# Altium footprint library sdl.PcbLib: 12 footprints
Each footprint in its own frame and in the unit in brackets; x right, y up, seen from the top. Pads: shape width x height; smd on the part's side, far side on the other; paste and mask are expansions set on the pad; w line width, h text height; cw(c..) or ccw(c..) is an arc to the next point about the centre after c.
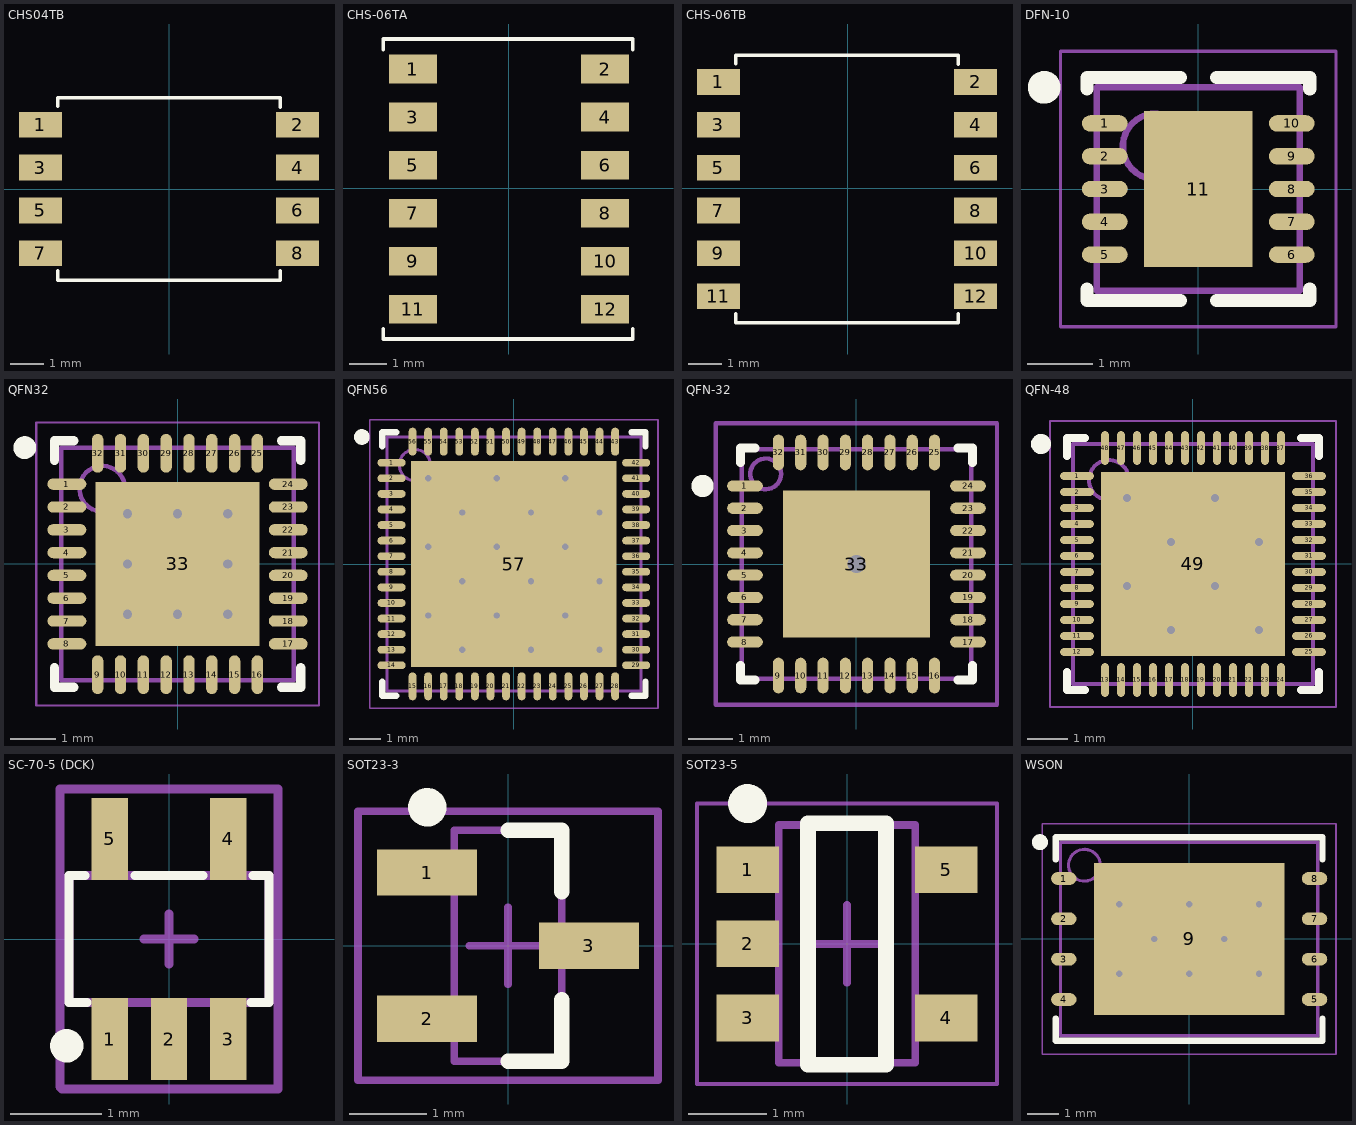
[diagram p0: the footprints below, top view; thin cyan lines are the x and y axes]

## CHS04TB [mm] "4 POS DIP SWITCH"
pads (8):
  rect 1.27x0.76 smd: 1(-3.81,1.905) 2(3.81,1.905) 3(-3.81,0.635) 4(3.81,0.635) 5(-3.81,-0.635) 6(3.81,-0.635) 7(-3.81,-1.905) 8(3.81,-1.905)
Top Overlay:
  lines w0.1: -3.3,-2.425 -3.3,-2.7 3.3,-2.7 3.3,-2.425 ; -3.3,2.45 -3.3,2.7 3.3,2.7 3.3,2.425
3D body: height 2.5, standoff 2.2, extent -1.5,-1.4 1.5,-1.1
3D body: height 2.5, standoff 2.2, extent -1.5,-0.1 1.5,0.2
3D body: height 2.5, standoff 2.2, extent -1.5,1.15 1.5,1.45
3D body: height 2.5, standoff 2.2, extent -1.5,-2.7 1.5,-2.4
3D body: height 2.5, standoff 2.2, extent -1.5,2.4 1.5,2.7
3D body: height 2.5, standoff 2.2, extent 1.5,-2.7 3.3,2.7
3D body: height 2.5, standoff 2.2, extent -3.3,-2.7 -1.5,2.7
3D body: height 2.3, standoff 2.2, extent -1.2,-2.3 0,-1.5
3D body: height 2.3, standoff 2.2, extent 0,-1 1.2,-0.2
3D body: height 2.3, standoff 2.2, extent -1.2,0.3 0,1.1
3D body: height 2.5, standoff 2.2, extent 0,-2.3 1.2,-1.5
3D body: height 2.5, standoff 2.2, extent -1.2,-1 0,-0.2
3D body: height 2.5, standoff 2.2, extent 0,0.3 1.2,1.1
3D body: height 2.3, standoff 2.2, extent 0,1.5 1.2,2.3
3D body: height 2.5, standoff 2.2, extent -1.2,1.5 0,2.3
3D body: height 2.2, standoff 0, extent -3.3,-2.7 3.3,2.7

## CHS-06TA [mm] "6 POS DIP SWITCH"
pads (12):
  rect 1.27x0.76 smd: 1(-2.54,3.15) 2(2.54,3.15) 3(-2.54,1.88) 4(2.54,1.88) 5(-2.54,0.61) 6(2.54,0.61) 7(-2.54,-0.66) 8(2.54,-0.66) 9(-2.54,-1.93) 10(2.54,-1.93) 11(-2.54,-3.2) 12(2.54,-3.2)
Top Overlay:
  lines w0.1: -3.325,-3.72 -3.325,-3.988 3.275,-3.988 3.275,-3.72 ; -3.325,3.67 -3.325,3.945 3.275,3.945 3.275,3.67
3D body: height 2.5, standoff 2.2, extent -1.525,-2.695 1.475,-2.395
3D body: height 2.5, standoff 2.2, extent -1.525,-3.988 1.475,-3.695
3D body: height 2.3, standoff 2.2, extent -1.225,-3.595 -0.025,-2.795
3D body: height 2.3, standoff 2.2, extent -0.025,-2.295 1.175,-1.495
3D body: height 2.5, standoff 2.2, extent -0.025,-3.595 1.175,-2.795
3D body: height 2.5, standoff 2.2, extent -1.225,-2.295 -0.025,-1.495
3D body: height 2.2, standoff 0, extent -3.325,-3.988 3.275,3.945
3D body: height 2.5, standoff 2.2, extent -1.225,2.745 -0.025,3.545
3D body: height 2.3, standoff 2.2, extent -0.025,2.745 1.175,3.545
3D body: height 2.5, standoff 2.2, extent -0.025,1.545 1.175,2.345
3D body: height 2.5, standoff 2.2, extent -1.225,0.245 -0.025,1.045
3D body: height 2.5, standoff 2.2, extent -0.025,-1.055 1.175,-0.255
3D body: height 2.3, standoff 2.2, extent -1.225,1.545 -0.025,2.345
3D body: height 2.3, standoff 2.2, extent -0.025,0.245 1.175,1.045
3D body: height 2.3, standoff 2.2, extent -1.225,-1.055 -0.025,-0.255
3D body: height 2.5, standoff 2.2, extent -3.325,-3.988 -1.525,3.945
3D body: height 2.5, standoff 2.2, extent 1.475,-3.988 3.275,3.945
3D body: height 2.5, standoff 2.2, extent -1.525,3.645 1.475,3.945
3D body: height 2.5, standoff 2.2, extent -1.525,-1.455 1.475,-1.155
3D body: height 2.5, standoff 2.2, extent -1.525,2.395 1.475,2.695
3D body: height 2.5, standoff 2.2, extent -1.525,1.145 1.475,1.445
3D body: height 2.5, standoff 2.2, extent -1.525,-0.155 1.475,0.145

## CHS-06TB [mil] "6 POS DIP SWITCH"
pads (12):
  rect 50x29.92 smd: 1(-151,124) 2(149,124) 3(-151,74) 4(149,74) 5(-151,24) 6(149,24) 7(-151,-26) 8(149,-26) 9(-151,-76) 10(149,-76) 11(-151,-126) 12(149,-126)
Top Overlay:
  lines w3.94: -130.92,-146.47 -130.92,-157 128.92,-157 128.92,-146.47 ; -130.92,145.46 -130.92,155.3 128.92,155.3 128.92,144.47
3D body: height 98.43, standoff 86.61, extent -60.05,-106.11 58.06,-94.3
3D body: height 98.43, standoff 86.61, extent -60.06,-157 58.06,-145.49
3D body: height 90.55, standoff 86.61, extent -48.24,-141.55 -1,-110.05
3D body: height 90.55, standoff 86.61, extent -0.99,-90.37 46.25,-58.87
3D body: height 98.43, standoff 86.61, extent -0.99,-141.55 46.25,-110.05
3D body: height 98.43, standoff 86.61, extent -48.24,-90.37 -1,-58.87
3D body: height 86.61, standoff 0, extent -130.92,-157 128.92,155.3
3D body: height 98.43, standoff 86.61, extent -48.24,108.06 -1,139.56
3D body: height 90.55, standoff 86.61, extent -1,108.06 46.24,139.56
3D body: height 98.43, standoff 86.61, extent -0.99,60.81 46.25,92.31
3D body: height 98.43, standoff 86.61, extent -48.24,9.63 -1,41.13
3D body: height 98.43, standoff 86.61, extent -0.99,-41.55 46.25,-10.05
3D body: height 90.55, standoff 86.61, extent -48.24,60.81 -1,92.31
3D body: height 90.55, standoff 86.61, extent -0.99,9.63 46.25,41.13
3D body: height 90.55, standoff 86.61, extent -48.24,-41.55 -1,-10.05
3D body: height 98.43, standoff 86.61, extent -130.92,-157 -60.05,155.3
3D body: height 98.43, standoff 86.61, extent 58.06,-157 128.92,155.3
3D body: height 98.43, standoff 86.61, extent -60.06,143.49 58.06,155.3
3D body: height 98.43, standoff 86.61, extent -60.06,-57.3 58.06,-45.49
3D body: height 98.43, standoff 86.61, extent -60.05,94.28 58.06,106.09
3D body: height 98.43, standoff 86.61, extent -60.05,45.07 58.06,56.88
3D body: height 98.43, standoff 86.61, extent -60.05,-6.11 58.06,5.7

## DFN-10 [mm] "QFN, 10-Leads, Body 3.00x3.00mm, Pitch 0.50mm, Thermal Pad 1.65x2.38mm, IPC Medium Density"
height 0.75
pads (11):
  oval 0.7x0.25 smd: 1(-1.425,1) 2(-1.425,0.5) 3(-1.425,0) 4(-1.425,-0.5) 5(-1.425,-1) 6(1.425,-1) 7(1.425,-0.5) 8(1.425,0) 9(1.425,0.5) 10(1.425,1)
  rect 1.65x2.38 smd: 11(0,0)
Top Overlay:
  circle w0.25: c-2.35,1.55 r0.125
  lines w0.2: -1.7,-1.525 -1.7,-1.7 -0.275,-1.7 ; -1.7,1.525 -1.7,1.7 -0.275,1.7 ; 0.275,-1.7 1.7,-1.7 1.7,-1.525 ; 0.275,1.7 1.7,1.7 1.7,1.525
Mechanical 13:
  circle w0.1: c-0.65,0.65 r0.5
  lines w0.1: -1.55,-1.55 1.55,-1.55 1.55,1.55 -1.55,1.55 -1.55,-1.55
Mechanical 15:
  lines w0.05: -2.1,-2.1 2.1,-2.1 2.1,2.1 -2.1,2.1 -2.1,-2.1
  lines w0.1: -0.5,0 0.5,0 ; 0,-0.5 0,0.5
3D body: height 0.75, standoff 0, extent -1.55,-1.55 1.55,1.55

## QFN32 [mm] "QFN, 32-Leads, Body 5.00x5.00mm, Pitch 0.50mm, Thermal Pad 3.60x3.60mm, IPC Medium Density"
height 0.9
pads (33):
  oval 0.85x0.25 smd: 1(-2.425,1.75) 2(-2.425,1.25) 3(-2.425,0.75) 4(-2.425,0.25) 5(-2.425,-0.25) 6(-2.425,-0.75) 7(-2.425,-1.25) 8(-2.425,-1.75) 17(2.425,-1.75) 18(2.425,-1.25) 19(2.425,-0.75) 20(2.425,-0.25) 21(2.425,0.25) 22(2.425,0.75) 23(2.425,1.25) 24(2.425,1.75)
  oval 0.25x0.85 smd: 9(-1.75,-2.425) 10(-1.25,-2.425) 11(-0.75,-2.425) 12(-0.25,-2.425) 13(0.25,-2.425) 14(0.75,-2.425) 15(1.25,-2.425) 16(1.75,-2.425) 25(1.75,2.425) 26(1.25,2.425) 27(0.75,2.425) 28(0.25,2.425) 29(-0.25,2.425) 30(-0.75,2.425) 31(-1.25,2.425) 32(-1.75,2.425)
  rect 3.6x3.6 smd: 33(0,0)
via 1.1,-1.1 diameter 0.55 hole 0.2
via 0,-1.1 diameter 0.55 hole 0.2
via -1.1,-1.1 diameter 0.55 hole 0.2
via 1.1,0 diameter 0.55 hole 0.2
via -1.1,0 diameter 0.55 hole 0.2
via 1.1,1.1 diameter 0.55 hole 0.2
via 0,1.1 diameter 0.55 hole 0.2
via -1.1,1.1 diameter 0.55 hole 0.2
Top Overlay:
  circle w0.25: c-3.35,2.55 r0.125
  lines w0.2: -2.7,-2.275 -2.7,-2.7 -2.275,-2.7 ; -2.7,2.275 -2.7,2.7 -2.275,2.7 ; 2.275,-2.7 2.7,-2.7 2.7,-2.275 ; 2.275,2.7 2.7,2.7 2.7,2.275
Mechanical 13:
  circle w0.1: c-1.65,1.65 r0.5
  lines w0.1: -2.55,-2.55 2.55,-2.55 2.55,2.55 -2.55,2.55 -2.55,-2.55
Mechanical 15:
  lines w0.05: -3.1,-3.1 3.1,-3.1 3.1,3.1 -3.1,3.1 -3.1,-3.1
  lines w0.1: -0.5,0 0.5,0 ; 0,-0.5 0,0.5
3D body: height 0.9, standoff 0, extent -2.55,-2.55 2.55,2.55

## QFN56 [mm] "QFN, 56-Leads, Body 8.00x8.00mm, Pitch 0.50mm, Thermal Pad 6.60x6.60mm, IPC Medium Density"
height 1
pads (57):
  oval 0.9x0.25 smd: 1(-3.925,3.25) 2(-3.925,2.75) 3(-3.925,2.25) 4(-3.925,1.75) 5(-3.925,1.25) 6(-3.925,0.75) 7(-3.925,0.25) 8(-3.925,-0.25) 9(-3.925,-0.75) 10(-3.925,-1.25) 11(-3.925,-1.75) 12(-3.925,-2.25) 13(-3.925,-2.75) 14(-3.925,-3.25) 29(3.925,-3.25) 30(3.925,-2.75) 31(3.925,-2.25) 32(3.925,-1.75) 33(3.925,-1.25) 34(3.925,-0.75) 35(3.925,-0.25) 36(3.925,0.25) 37(3.925,0.75) 38(3.925,1.25) 39(3.925,1.75) 40(3.925,2.25) 41(3.925,2.75) 42(3.925,3.25)
  oval 0.25x0.9 smd: 15(-3.25,-3.925) 16(-2.75,-3.925) 17(-2.25,-3.925) 18(-1.75,-3.925) 19(-1.25,-3.925) 20(-0.75,-3.925) 21(-0.25,-3.925) 22(0.25,-3.925) 23(0.75,-3.925) 24(1.25,-3.925) 25(1.75,-3.925) 26(2.25,-3.925) 27(2.75,-3.925) 28(3.25,-3.925) 43(3.25,3.925) 44(2.75,3.925) 45(2.25,3.925) 46(1.75,3.925) 47(1.25,3.925) 48(0.75,3.925) 49(0.25,3.925) 50(-0.25,3.925) 51(-0.75,3.925) 52(-1.25,3.925) 53(-1.75,3.925) 54(-2.25,3.925) 55(-2.75,3.925) 56(-3.25,3.925)
  rect 6.6x6.6 smd: 57(0,0)
via 2.75,-2.75 diameter 0.559 hole 0.203
via 0.55,-2.75 diameter 0.559 hole 0.203
via -1.65,-2.75 diameter 0.559 hole 0.203
via 1.65,-1.65 diameter 0.559 hole 0.203
via -0.55,-1.65 diameter 0.559 hole 0.203
via -2.75,-1.65 diameter 0.559 hole 0.203
via 2.75,-0.55 diameter 0.559 hole 0.203
via 0.55,-0.55 diameter 0.559 hole 0.203
via -1.65,-0.55 diameter 0.559 hole 0.203
via 1.65,0.55 diameter 0.559 hole 0.203
via -0.55,0.55 diameter 0.559 hole 0.203
via -2.75,0.55 diameter 0.559 hole 0.203
via 2.75,1.65 diameter 0.559 hole 0.203
via 0.55,1.65 diameter 0.559 hole 0.203
via -1.65,1.65 diameter 0.559 hole 0.203
via 1.65,2.75 diameter 0.559 hole 0.203
via -0.55,2.75 diameter 0.559 hole 0.203
via -2.75,2.75 diameter 0.559 hole 0.203
Top Overlay:
  circle w0.25: c-4.875,4.075 r0.125
  lines w0.2: -4.225,-3.775 -4.225,-4.225 -3.775,-4.225 ; -4.225,3.775 -4.225,4.225 -3.775,4.225 ; 3.775,-4.225 4.225,-4.225 4.225,-3.775 ; 3.775,4.225 4.225,4.225 4.225,3.775
Mechanical 13:
  circle w0.1: c-3.175,3.175 r0.5
  lines w0.1: -4.075,-4.075 4.075,-4.075 4.075,4.075 -4.075,4.075 -4.075,-4.075
Mechanical 15:
  lines w0.05: -4.625,-4.625 4.625,-4.625 4.625,4.625 -4.625,4.625 -4.625,-4.625
  lines w0.1: -0.5,0 0.5,0 ; 0,-0.5 0,0.5
3D body: height 1, standoff 0, extent -4.075,-4.075 4.075,4.075

## QFN-32 [mm] "32-Pin QFN 0.5 mm Pitch"
height 0.8
pads (33):
  oval 0.8x0.25 smd: 1(-2.5,1.75) 2(-2.5,1.25) 3(-2.5,0.75) 4(-2.5,0.25) 5(-2.5,-0.25) 6(-2.5,-0.75) 7(-2.5,-1.25) 8(-2.5,-1.75) 17(2.5,-1.75) 18(2.5,-1.25) 19(2.5,-0.75) 20(2.5,-0.25) 21(2.5,0.25) 22(2.5,0.75) 23(2.5,1.25) 24(2.5,1.75)
  oval 0.25x0.8 smd: 9(-1.75,-2.5) 10(-1.25,-2.5) 11(-0.75,-2.5) 12(-0.25,-2.5) 13(0.25,-2.5) 14(0.75,-2.5) 15(1.25,-2.5) 16(1.75,-2.5) 25(1.75,2.5) 26(1.25,2.5) 27(0.75,2.5) 28(0.25,2.5) 29(-0.25,2.5) 30(-0.75,2.5) 31(-1.25,2.5) 32(-1.75,2.5)
  rect 3.3x3.3 smd: 33(0,0)
via 0,0 diameter 0.8 hole 0.4
Top Overlay:
  circle w0.25: c-3.45,1.75 r0.125
  lines w0.2: -2.6,-2.275 -2.6,-2.6 -2.275,-2.6 ; -2.6,2.275 -2.6,2.6 -2.275,2.6 ; 2.275,-2.6 2.6,-2.6 2.6,-2.275 ; 2.275,2.6 2.6,2.6 2.6,2.275
Mechanical 13:
  circle w0.1: c-2.035,2.02 r0.345
  lines w0.1: -2.575,-2.575 -2.575,2.575 2.575,2.575 2.575,-2.575 -2.575,-2.575
Mechanical 15:
  lines w0.1: -0.5,0 0.5,0 ; 0,-0.5 0,0.5 ; -3.15,-3.15 -3.15,3.15 3.15,3.15 3.15,-3.15 -3.15,-3.15
3D body: height 0.8, standoff 0, extent -2.575,-2.575 2.575,2.575

## QFN-48 [mm] "QFN, 48-Leads, Body 6.00x6.00mm, Pitch 0.40mm, Thermal Pad 4.60x4.60mm, IPC Medium Density"
height 0.9
pads (49):
  oval 0.85x0.2 smd: 1(-2.9,2.2) 2(-2.9,1.8) 3(-2.9,1.4) 4(-2.9,1) 5(-2.9,0.6) 6(-2.9,0.2) 7(-2.9,-0.2) 8(-2.9,-0.6) 9(-2.9,-1) 10(-2.9,-1.4) 11(-2.9,-1.8) 12(-2.9,-2.2) 25(2.9,-2.2) 26(2.9,-1.8) 27(2.9,-1.4) 28(2.9,-1) 29(2.9,-0.6) 30(2.9,-0.2) 31(2.9,0.2) 32(2.9,0.6) 33(2.9,1) 34(2.9,1.4) 35(2.9,1.8) 36(2.9,2.2)
  oval 0.2x0.85 smd: 13(-2.2,-2.9) 14(-1.8,-2.9) 15(-1.4,-2.9) 16(-1,-2.9) 17(-0.6,-2.9) 18(-0.2,-2.9) 19(0.2,-2.9) 20(0.6,-2.9) 21(1,-2.9) 22(1.4,-2.9) 23(1.8,-2.9) 24(2.2,-2.9) 37(2.2,2.9) 38(1.8,2.9) 39(1.4,2.9) 40(1,2.9) 41(0.6,2.9) 42(0.2,2.9) 43(-0.2,2.9) 44(-0.6,2.9) 45(-1,2.9) 46(-1.4,2.9) 47(-1.8,2.9) 48(-2.2,2.9)
  rect 4.6x4.6 smd: 49(0,0)
via 1.65,-1.65 diameter 0.5 hole 0.2
via -0.55,-1.65 diameter 0.5 hole 0.2
via 0.55,-0.55 diameter 0.5 hole 0.2
via -1.65,-0.55 diameter 0.5 hole 0.2
via 1.65,0.55 diameter 0.5 hole 0.2
via -0.55,0.55 diameter 0.5 hole 0.2
via 0.55,1.65 diameter 0.5 hole 0.2
via -1.65,1.65 diameter 0.5 hole 0.2
Top Overlay:
  circle w0.25: c-3.8,3 r0.125
  lines w0.2: -3.15,-2.7 -3.15,-3.15 -2.7,-3.15 ; -3.15,2.7 -3.15,3.15 -2.7,3.15 ; 2.7,-3.15 3.15,-3.15 3.15,-2.7 ; 2.7,3.15 3.15,3.15 3.15,2.7
Mechanical 13:
  circle w0.1: c-2.1,2.1 r0.5
  lines w0.1: -3,-3 3,-3 3,3 -3,3 -3,-3
Mechanical 15:
  lines w0.05: -3.575,-3.575 3.575,-3.575 3.575,3.575 -3.575,3.575 -3.575,-3.575
  lines w0.1: -0.5,0 0.5,0 ; 0,-0.5 0,0.5
3D body: height 0.9, standoff 0, extent -3,-3 3,3

## SC-70-5 (DCK) [mm]
pads (5):
  rect 0.4x0.9 smd mask+0.05: 1(-0.65,-1.1) 2(0,-1.1) 3(0.65,-1.1) 4(0.65,1.1) 5(-0.65,1.1)
Top Overlay:
  circle w0.254: c-1.125,-1.175 r0.056
  lines w0.1: -0.925,0.7 -1.1,0.7 -1.1,-0.7 -0.9,-0.7 ; -0.375,0.7 0.375,0.7 ; 0.9,-0.7 1.1,-0.7 1.1,0.7 0.925,0.7
Mechanical 13:
  lines w0.1: -1.1,-0.7 -1.1,0.7 1.1,0.7 1.1,-0.7 -1.1,-0.7
Mechanical 15:
  lines w0.1: -0.275,0 0.275,0 ; 0,-0.275 0,0.275 ; -1.2,-1.625 -1.175,-1.65 1.2,-1.65 1.2,1.65 -1.2,1.65 -1.2,-1.625
3D body: height 1.1, standoff 0, extent -1.1,-0.7 1.1,0.7

## SOT23-3 [mm] "SOT23, 3-Leads, Body 2.9x1.3mm, Pitch 0.95mm, Lead Span 2.3mm, IPC Medium Density"
height 1.2
pads (3):
  rect 1.3x0.6 smd: 1(-1.05,0.95) 2(-1.05,-0.95) 3(1.05,0)
Top Overlay:
  circle w0.25: c-1.05,1.8 r0.125
  lines w0.2: 0,-1.5 0.7,-1.5 0.7,-0.7 ; 0,1.5 0.7,1.5 0.7,0.7
Mechanical 13:
  lines w0.1: -0.7,-1.5 0.7,-1.5 0.7,1.5 -0.7,1.5 -0.7,-1.5
Mechanical 15:
  lines w0.1: -0.5,0 0.5,0 ; 0,-0.5 0,0.5 ; -1.95,-1.75 1.95,-1.75 1.95,1.75 -1.95,1.75 -1.95,-1.75
3D body: height 1.2, standoff 0, extent -0.7,-1.5 0.7,1.5

## SOT23-5 [mm] "SOT23, 5-Leads, Body 2.90x2.45mm, Pitch 0.95mm, IPC Medium Density"
height 0.15
pads (5):
  rect 0.8x0.6 smd: 1(-1.275,0.95) 2(-1.275,0) 3(-1.275,-0.95) 4(1.275,-0.95) 5(1.275,0.95)
Top Overlay:
  circle w0.25: c-1.275,1.8 r0.125
  lines w0.2: -0.5,-1.55 0.5,-1.55 0.5,1.55 -0.5,1.55 -0.5,-1.55
Mechanical 13:
  lines w0.1: -0.875,-1.525 -0.875,1.525 0.875,1.525 0.875,-1.525 -0.875,-1.525
Mechanical 15:
  lines w0.05: -1.925,-1.8 -1.925,1.8 1.925,1.8 1.925,-1.8 -1.925,-1.8
  lines w0.1: -0.5,0 0.5,0 ; 0,-0.5 0,0.5
3D body: height 0.15, standoff 0, extent -0.875,-1.525 0.875,1.525

## WSON [mm] "QFN, 8-Leads, Body 8.00x6.00mm, Pitch 1.27mm, Thermal Pad 6.00x4.80mm, IPC Medium Density"
height 0.8
pads (9):
  oval 0.8x0.4 smd: 1(-3.95,1.905) 2(-3.95,0.635) 3(-3.95,-0.635) 4(-3.95,-1.905) 5(3.95,-1.905) 6(3.95,-0.635) 7(3.95,0.635) 8(3.95,1.905)
  rect 6x4.8 smd: 9(0,0)
via 1.1,0 diameter 0.55 hole 0.2
via 2.2,1.1 diameter 0.55 hole 0.2
via 2.2,-1.1 diameter 0.55 hole 0.2
via 0,1.1 diameter 0.55 hole 0.2
via 0,-1.1 diameter 0.55 hole 0.2
via -1.1,0 diameter 0.55 hole 0.2
via -2.2,1.1 diameter 0.55 hole 0.2
via -2.2,-1.1 diameter 0.55 hole 0.2
Top Overlay:
  circle w0.25: c-4.7,3.05 r0.125
  lines w0.2: -4.2,-2.505 -4.2,-3.2 0.035,-3.2 ; -4.2,2.505 -4.2,3.2 0.035,3.2 ; -0.035,-3.2 4.2,-3.2 4.2,-2.505 ; -0.035,3.2 4.2,3.2 4.2,2.505
Mechanical 13:
  circle w0.1: c-3.3,2.325 r0.5
  lines w0.1: -4.05,-3.05 4.05,-3.05 4.05,3.05 -4.05,3.05 -4.05,-3.05
Mechanical 15:
  lines w0.05: -4.625,-3.625 4.625,-3.625 4.625,3.625 -4.625,3.625 -4.625,-3.625
  lines w0.1: -0.5,0 0.5,0 ; 0,-0.5 0,0.5
3D body: height 0.8, standoff 0, extent -4.05,-3.05 4.05,3.05